# EAGLE library part ADG436BNZ (library ic)
ADG436BNZ Analog selector 2 channel, +-44 V Connects B on logical 0, and A on logical 1
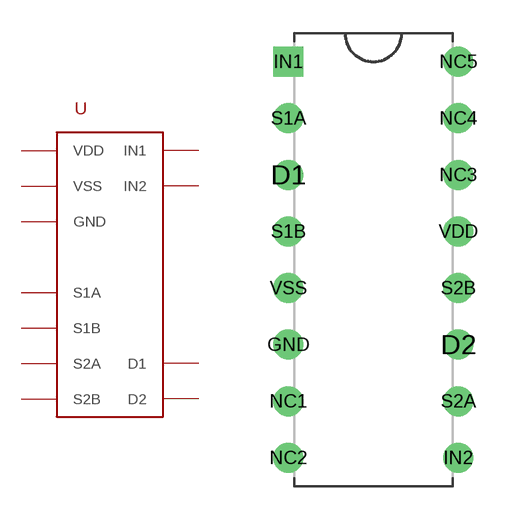
[diagram p2: symbol with the pads of DIP762W53P254L2006H508Q16B; footprint DIP762W53P254L2006H508Q16B]

Designator prefix -

## ADG436BNZADG436BNZ  [DIP762W53P254L2006H508Q16B]
D1  D1
D2  D2
GND  GND  pwr
IN1  IN1  in
IN2  IN2  in
S1A  S1A
S1B  S1B
S2A  S2A
S2B  S2B
VDD  VDD  pwr
VSS  VSS  pwr

## Footprint DIP762W53P254L2006H508Q16B (pad centres in mm)
16-DIP, 2.54 mm (0.10 in) pitch, 7.62 mm (0.30 in) span, 20.07 X 6.60 X 5.08 mm body 16-pin DIP package with 2.54 mm (0.10 in) pitch, 7.62 mm (0.30 in) span with body size 20.07 X 6.60 X 5.08 mm
drill 0.743 pad 1.343: D1 -3.81,3.81; D2 3.81,-3.81; GND -3.81,-3.81; IN2 3.81,-8.89; NC1 -3.81,-6.35; NC2 -3.81,-8.89; NC3 3.81,3.81; NC4 3.81,6.35; NC5 3.81,8.89; S1A -3.81,6.35; S1B -3.81,1.27; S2A 3.81,-6.35; S2B 3.81,-1.27; VDD 3.81,1.27; VSS -3.81,-1.27
drill 0.743 pad 1.343 square: IN1 -3.81,8.89